# Altium schematic symbol library ESP8684H2.SchLib: 2 symbols
Pins are listed as number, name and electrical type; pins without a type are passive.

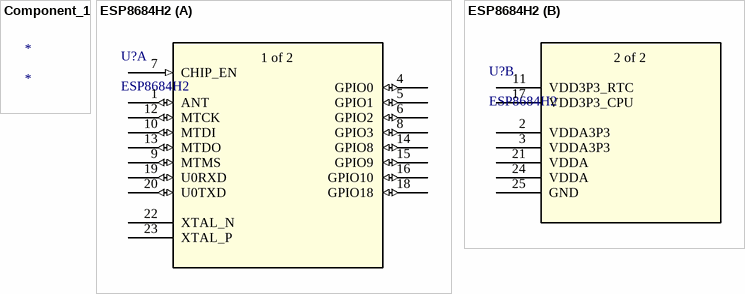
[diagram p0: symbols Component_1 to ESP8684H2]

## Component_1
designator *

## ESP8684H2
designator U?
No Description Available; Mfr_Name: Espressif Systems; Copyright: Copyright (C) 2023 Ultra Librarian. All rights reserved.; Manufacturer_Part_Number: ESP8684H2; RefDes: RefDes; Type: DEV
footprint QFN24_4X4_EXP
part A pins: 1 ANT (io), 4 GPIO0 (io), 5 GPIO1 (io), 6 GPIO2 (io), 7 CHIP_EN (in), 8 GPIO3 (io), 9 MTMS (io), 10 MTDI (io), 12 MTCK (io), 13 MTDO (io), 14 GPIO8 (io), 15 GPIO9 (io), 16 GPIO10 (io), 18 GPIO18 (io), 19 U0RXD (io), 20 U0TXD (io), 22 XTAL_N, 23 XTAL_P
part B pins: 2 VDDA3P3 (power), 3 VDDA3P3 (power), 11 VDD3P3_RTC (power), 17 VDD3P3_CPU (power), 21 VDDA (power), 24 VDDA (power), 25 GND
part A text: 1 of 2
part B text: 2 of 2